# Altium footprint library AMPHENOL_10029449.PcbLib: 1 footprints
Each footprint in its own frame and in the unit in brackets; x right, y up, seen from the top. Pads: shape width x height; smd on the part's side, far side on the other; paste and mask are expansions set on the pad; w line width, h text height; cw(c..) or ccw(c..) is an arc to the next point about the centre after c.
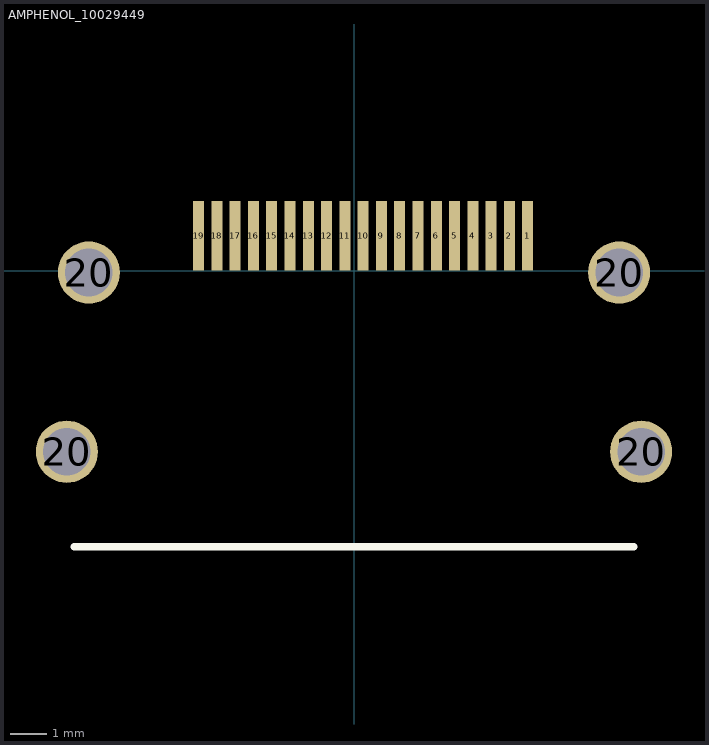
[diagram p0: the footprint, top view; thin cyan lines are the x and y axes]

## AMPHENOL_10029449 [mm] "Amphenol HDMI type A connector"
pads (23):
  rect 0.3x1.9 smd mask+0.05: 1(4.75,0.95) 2(4.25,0.95) 3(3.75,0.95) 4(3.25,0.95) 5(2.75,0.95) 6(2.25,0.95) 7(1.75,0.95) 8(1.25,0.95) 9(0.75,0.95) 10(0.25,0.95) 11(-0.25,0.95) 12(-0.75,0.95) 13(-1.25,0.95) 14(-1.75,0.95) 15(-2.25,0.95) 16(-2.75,0.95) 17(-3.25,0.95) 18(-3.75,0.95) 19(-4.25,0.95)
  round 1.7 hole 1.3: 20(-7.85,-4.95) 20(-7.25,-0.05) 20(7.25,-0.05) 20(7.85,-4.95)
Top Overlay:
  lines w0.2: -7.65,-7.55 7.65,-7.55
3D body "AMPHENOL_10029449-111RLF.stp": height 6.25, standoff -1.88, extent -8.1,-8.5 8.1,1.6